# EAGLE library part MA09-1J (library joakim)
PIN HEADER
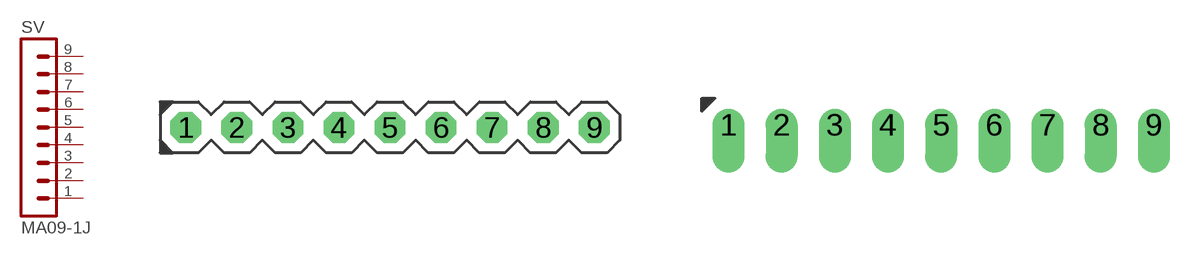
[diagram p5: symbol with the pads of MA09-1J; footprints MA09-1J, SIP-PIN09-1J]

Designator prefix SV

## MA09-1JC (OC_FARNELL: unknown; OC_NEWARK: unknown)  [MA09-1J]
1  1  pas
2  2  pas
3  3  pas
4  4  pas
5  5  pas
6  6  pas
7  7  pas
8  8  pas
9  9  pas

## MA09-1JP  [SIP-PIN09-1J]
Pads as for MA09-1J

## Footprint MA09-1J (pad centres in mm)
PIN HEADER
drill 1.016 octagon: 1 -10.16,0; 2 -7.62,0; 3 -5.08,0; 4 -2.54,0; 5 0,0; 6 2.54,0; 7 5.08,0; 8 7.62,0; 9 10.16,0

## Footprint SIP-PIN09-1J (pad centres in mm)
drill 1.016 offset: 1 -10.16,0; 2 -7.62,0; 3 -5.08,0; 4 -2.54,0; 5 0,0; 6 2.54,0; 7 5.08,0; 8 7.62,0; 9 10.16,0